# EAGLE library part CS5490 (library Labor)
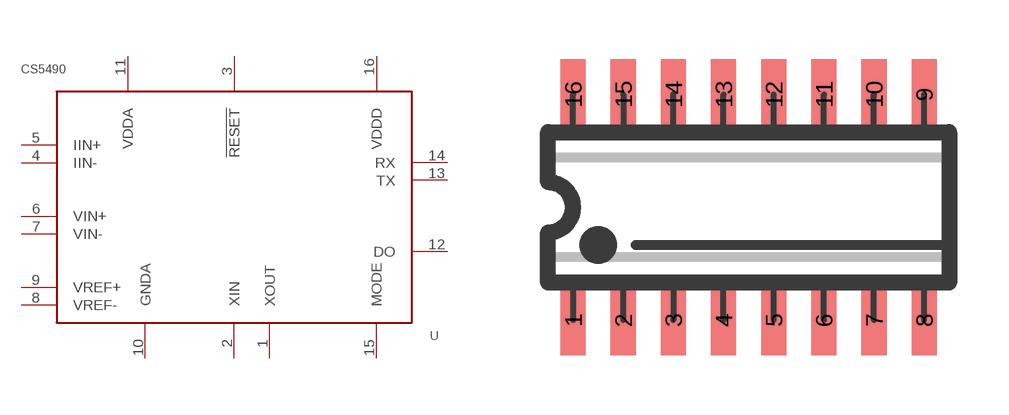
[diagram p17: symbol with the pads of SO16; footprint SO16]

Designator prefix -

## CS5490  [SO16]
1  XOUT
2  XIN
3  !RESET
4  IIN-
5  IIN+
6  VIN+
7  VIN-
8  VREF-
9  VREF+
10  GNDA
11  VDDA
12  DO
13  TX
14  RX
15  MODE
16  VDDD

## Footprint SO16 (pad centres in mm)
SO-16, SMD SOIC IC package, 16 pins
smd 0.635 x 1.778: 1 -4.445,-2.857; 2 -3.175,-2.857; 3 -1.905,-2.857; 4 -0.635,-2.857; 5 0.635,-2.857; 6 1.905,-2.857; 7 3.175,-2.857; 8 4.445,-2.857; 9 4.445,2.857; 10 3.175,2.857; 11 1.905,2.857; 12 0.635,2.857; 13 -0.635,2.857; 14 -1.905,2.857; 15 -3.175,2.857; 16 -4.445,2.857